# Altium footprint library TSSOP16.PcbLib: 1 footprints
Each footprint in its own frame and in the unit in brackets; x right, y up, seen from the top. Pads: shape width x height; smd on the part's side, far side on the other; paste and mask are expansions set on the pad; w line width, h text height; cw(c..) or ccw(c..) is an arc to the next point about the centre after c.
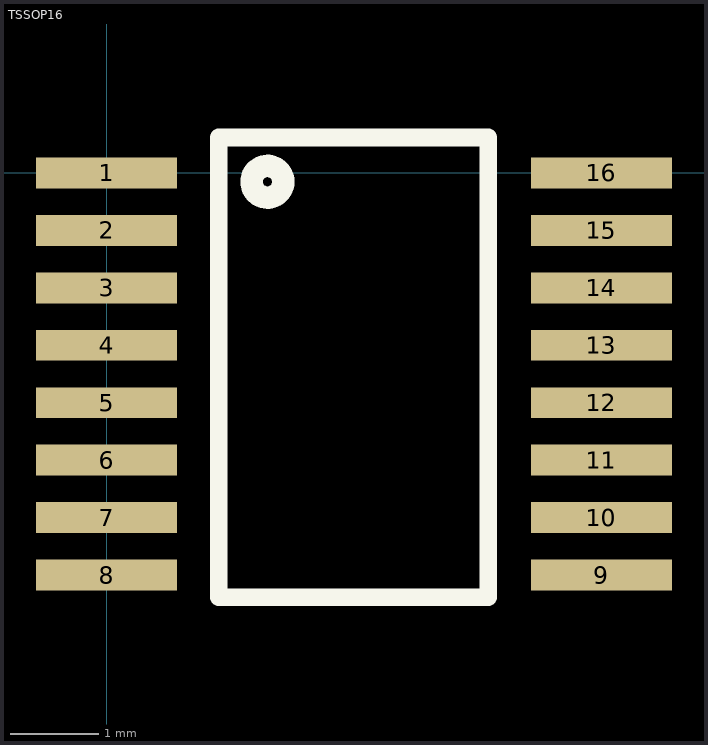
[diagram p0: the footprint, top view; thin cyan lines are the x and y axes]

## TSSOP16 [mm]
pads (16):
  rect 1.6x0.35 smd: 1(0,0) 2(0,-0.65) 3(0,-1.3) 4(0,-1.95) 5(0,-2.6) 6(0,-3.25) 7(0,-3.9) 8(0,-4.55) 9(5.6,-4.55) 10(5.6,-3.9) 11(5.6,-3.25) 12(5.6,-2.6) 13(5.6,-1.95) 14(5.6,-1.3) 15(5.6,-0.65) 16(5.6,0)
Top Overlay:
  circle w0.254: c1.82,-0.1 r0.18
  lines w0.2: 1.27,-4.8 4.318,-4.8 4.318,0.4 1.27,0.4 1.27,-4.8
3D body: height 1.1, standoff 0, extent -0.4,-4.771 6,0.229